# Altium schematic symbol library RJ-Telephone connectors.SchLib: 10 symbols
Pins are listed as number, name and electrical type; pins without a type are passive.

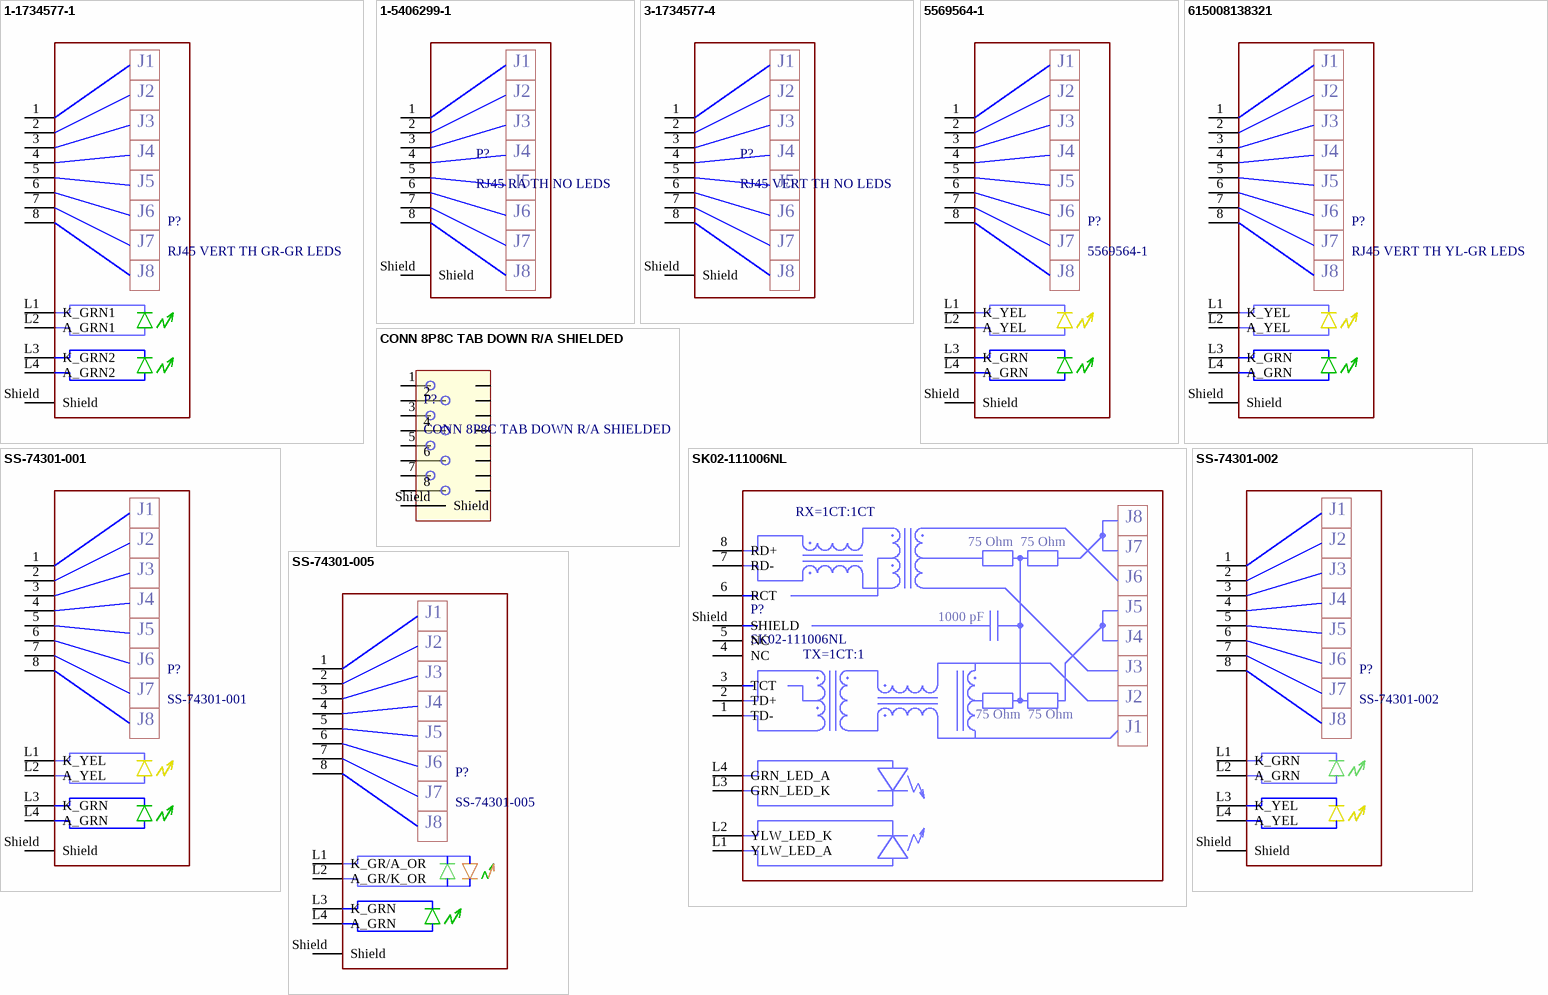
[diagram p0: symbols 1-1734577-1 to SS-74301-005]

## 1-1734577-1
designator P?, comment RJ45 VERT TH GR-GR LEDS
RJ45 Vertical Through Hole Green-Green LEDs
footprint RJ45 Vertical Through Hole 2 LEDs Variant 0 (RJ45 Vertical Through Hole 2 LEDs ( Standard, thick ))
footprint 8P8C PART_VERT FOOT_RA&VERT (Vertical part, footprint for vertical and right angled.)
pins: 1, 2, 3, 4, 5, 6, 7, 8, L1 K_GRN1, L2 A_GRN1, L3 K_GRN2, L4 A_GRN2, Shield
text: J1; J2; J3; J4; J5; J6; J7; J8

## 1-5406299-1
designator P?, comment RJ45 RA TH NO LEDS
RJ45 Right Angle Through Hole No LEDs
footprint RJ45 RA Through Hole No LEDs Universal Thick (RJ45 Right Angle Through Hole No LEDs ( Universal, thick ))
footprint 8P8C PART_RA_LONG FOOT_RA&VERT (Right angle long part, footprint for vertical and right angled.)
pins: 1, 2, 3, 4, 5, 6, 7, 8, Shield
text: J1; J2; J3; J4; J5; J6; J7; J8

## 3-1734577-4
designator P?, comment RJ45 VERT TH NO LEDS
RJ45 Vertical Through Hole No LEDs
footprint RJ45 Vertical Through Hole No LEDs Universal Thick (RJ45 Vertical Through Hole No LEDs ( Universal, thick ))
footprint 8P8C PART_VERT FOOT_RA&VERT (Vertical part, footprint for vertical and right angled.)
pins: 1, 2, 3, 4, 5, 6, 7, 8, Shield
text: J1; J2; J3; J4; J5; J6; J7; J8

## 5569564-1
designator P?
RJ45 Right Angle Through Hole Yellow-Green LEDs
footprint 8P8C PART_RA_LONG FOOT_RA&VERT (Right angle long part, footprint for vertical and right angled.)
pins: 1, 2, 3, 4, 5, 6, 7, 8, L1 K_YEL, L2 A_YEL, L3 K_GRN, L4 A_GRN, Shield
text: J1; J2; J3; J4; J5; J6; J7; J8

## 615008138321
designator P?, comment RJ45 VERT TH YL-GR LEDS
RJ45 Vertical Through Hole Yellow-Green LEDs
footprint RJ45 Vertical Through Hole 2 LEDs Variant 0 (RJ45 Vertical Through Hole 2 LEDs ( Standard, thick ))
footprint 8P8C PART_VERT FOOT_RA&VERT (Vertical part, footprint for vertical and right angled.)
pins: 1, 2, 3, 4, 5, 6, 7, 8, L1 K_YEL, L2 A_YEL, L3 K_GRN, L4 A_GRN, Shield
text: J1; J2; J3; J4; J5; J6; J7; J8

## CONN 8P8C TAB DOWN R/A SHIELDED
designator P?
CONN MOD JACK 8P8C R/A SHIELDED; Supplier 1: Digi-Key; Supplier 2: Digi-Key; Supplier 3: Digi-Key; Supplier 4: Digi-Key; Supplier 5: Digi-Key; Supplier 6: Digi-Key; Supplier 7: Digi-Key; Supplier 8: Digi-Key; Supplier 9: Digi-Key; Supplier 10: Digi-Key; Supplier Part Number 1: AE10387-ND; Supplier Part Number 2: A31466-ND; Supplier Part Number 3: 380-1025-ND; Supplier Part Number 4: 1195-2207-ND; Supplier Part Number 5: 380-1161-ND; Supplier Part Number 6: A31438-ND; Supplier Part Number 7: 5558310-1-ND; Supplier Part Number 8: 380-1024-ND; Supplier Part Number 9: 380-1048-ND; Supplier Part Number 10: 380-1047-ND
footprint RJ45 RA Through Hole No LEDs Universal Thick (RJ45 Right Angle Through Hole No LEDs ( Universal, thick ))
pins: 1, 2, 3, 4, 5, 6, 7, 8, Shield

## SK02-111006NL
designator P?
MAG RJ-45 with 2 LEDS (Green, Yellow), TAB DOWN
footprint SK02-111006NL (Footprint for MAG RJ-45 with 2 LEDS, TAB DOWN)
footprint 8P8C PART_RA_LONG FOOT_RA&VERT (Right angle long part, footprint for vertical and right angled.)
pins: 1 TD-, 2 TD+, 3 TCT, 4 NC, 5 NC, 6 RCT, 7 RD-, 8 RD+, L1 YLW_LED_A, L2 YLW_LED_K, L3 GRN_LED_K, L4 GRN_LED_A, Shield SHIELD
text: RX=1CT:1CT; J8; 75 Ohm; J7; J6; J5; 1000 pF; J4; TX=1CT:1; J3; J2; J1

## SS-74301-001
designator P?
RJ45 Vertical Through Hole Yellow-Green LEDs
footprint RJ45 Vertical Through Hole 2 LEDs Variant 0 (RJ45 Vertical Through Hole 2 LEDs ( Standard, thick ))
footprint 8P8C PART_VERT FOOT_RA&VERT (Vertical part, footprint for vertical and right angled.)
pins: 1, 2, 3, 4, 5, 6, 7, 8, L1 K_YEL, L2 A_YEL, L3 K_GRN, L4 A_GRN, Shield
text: J1; J2; J3; J4; J5; J6; J7; J8

## SS-74301-002
designator P?
RJ45 Vertical Through Hole Green-Yellow LEDs
footprint RJ45 Vertical Through Hole 2 LEDs Variant 0 (RJ45 Vertical Through Hole 2 LEDs ( Standard, thick ))
footprint 8P8C PART_VERT FOOT_RA&VERT (Vertical part, footprint for vertical and right angled.)
pins: 1, 2, 3, 4, 5, 6, 7, 8, L1 K_GRN, L2 A_GRN, L3 K_YEL, L4 A_YEL, Shield
text: J1; J2; J3; J4; J5; J6; J7; J8

## SS-74301-005
designator P?
RJ45 Vertical Through Hole Green-Green/Orange LEDs
footprint RJ45 Vertical Through Hole 2 LEDs Variant 0 (RJ45 Vertical Through Hole 2 LEDs ( Standard, thick ))
footprint 8P8C PART_VERT FOOT_RA&VERT (Vertical part, footprint for vertical and right angled.)
pins: 1, 2, 3, 4, 5, 6, 7, 8, L1 K_GR/A_OR, L2 A_GR/K_OR, L3 K_GRN, L4 A_GRN, Shield
text: J1; J2; J3; J4; J5; J6; J7; J8